# Altium schematic symbol library connector.SchLib: 3 symbols
Pins are listed as number, name and electrical type; pins without a type are passive.

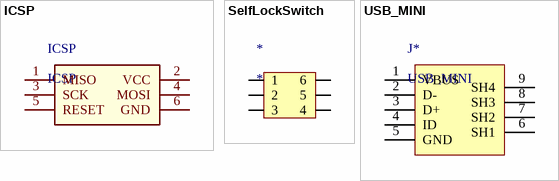
[diagram p0: symbols ICSP to USB_MINI]

## ICSP
designator ICSP
footprint DIP6
pins: 1 MISO (oc) "1", 2 VCC "2", 3 SCK (oc) "3", 4 MOSI (oc) "4", 5 RESET (oc) "5", 6 GND (oc) "6"

## SelfLockSwitch
designator *
footprint KEY_ZS_8*8
pins: 1, 2, 3, 4, 5, 6

## USB_MINI
designator J*
footprint MICRO_USB
pins: 1 VBUS, 2 D-, 3 D+, 4 ID, 5 GND, 6 SH1, 7 SH2, 8 SH3, 9 SH4